# Altium schematic symbol library trafo-xicon.SCHLIB: 5 symbols
Pins are listed as number, name and electrical type; pins without a type are passive.

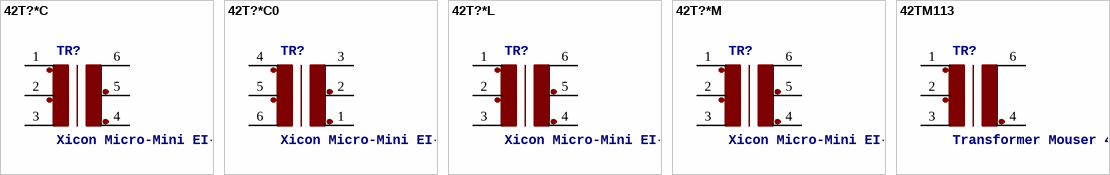
[diagram p0: symbols 42T?*C to 42TM113]

## 42T?*C
designator TR?, comment Xicon Micro-Mini EI-12 Audio Transformers 42TL/42TC/42TM Series   Source: http://www.mouser.com//catalog/specsheets/164201.pdf http://www.mouser.com/catalog/specsheets/114225.pdf http://www.mouser.com/catalog/specsheets/164267.pdf
OC_FARNELL: unknown; OC_NEWARK: unknown
footprint 42TC
pins: 1, 2, 3, 4, 5, 6

## 42T?*C0
designator TR?, comment Xicon Micro-Mini EI-12 Audio Transformers 42TL/42TC/42TM Series   Source: http://www.mouser.com//catalog/specsheets/164201.pdf http://www.mouser.com/catalog/specsheets/114225.pdf http://www.mouser.com/catalog/specsheets/164267.pdf
OC_FARNELL: unknown; OC_NEWARK: unknown
footprint 42TC
pins: 1 4, 2 5, 3 6, 4 1, 5 2, 6 3

## 42T?*L
designator TR?, comment Xicon Micro-Mini EI-12 Audio Transformers 42TL/42TC/42TM Series   Source: http://www.mouser.com//catalog/specsheets/164201.pdf http://www.mouser.com/catalog/specsheets/114225.pdf http://www.mouser.com/catalog/specsheets/164267.pdf
OC_FARNELL: unknown; OC_NEWARK: unknown
footprint 42TL
pins: 1, 2, 3, 4, 5, 6

## 42T?*M
designator TR?, comment Xicon Micro-Mini EI-12 Audio Transformers 42TL/42TC/42TM Series   Source: http://www.mouser.com//catalog/specsheets/164201.pdf http://www.mouser.com/catalog/specsheets/114225.pdf http://www.mouser.com/catalog/specsheets/164267.pdf
OC_FARNELL: unknown; OC_NEWARK: unknown
footprint 42TM
pins: 1, 2, 3, 4, 5, 6

## 42TM113
designator TR?, comment Transformer Mouser 42TLM Series   Source: http://www.mouser.com/catalog/specsheets/164267.pdf
OC_FARNELL: unknown; OC_NEWARK: unknown
footprint 42TM
pins: 1, 2, 3, 4, 6